# Altium footprint library Capacitor.PcbLib: 38 footprints (part 1 of 3)
Each footprint in its own frame and in the unit in brackets; x right, y up, seen from the top. Pads: shape width x height; smd on the part's side, far side on the other; paste and mask are expansions set on the pad; w line width, h text height; cw(c..) or ccw(c..) is an arc to the next point about the centre after c.
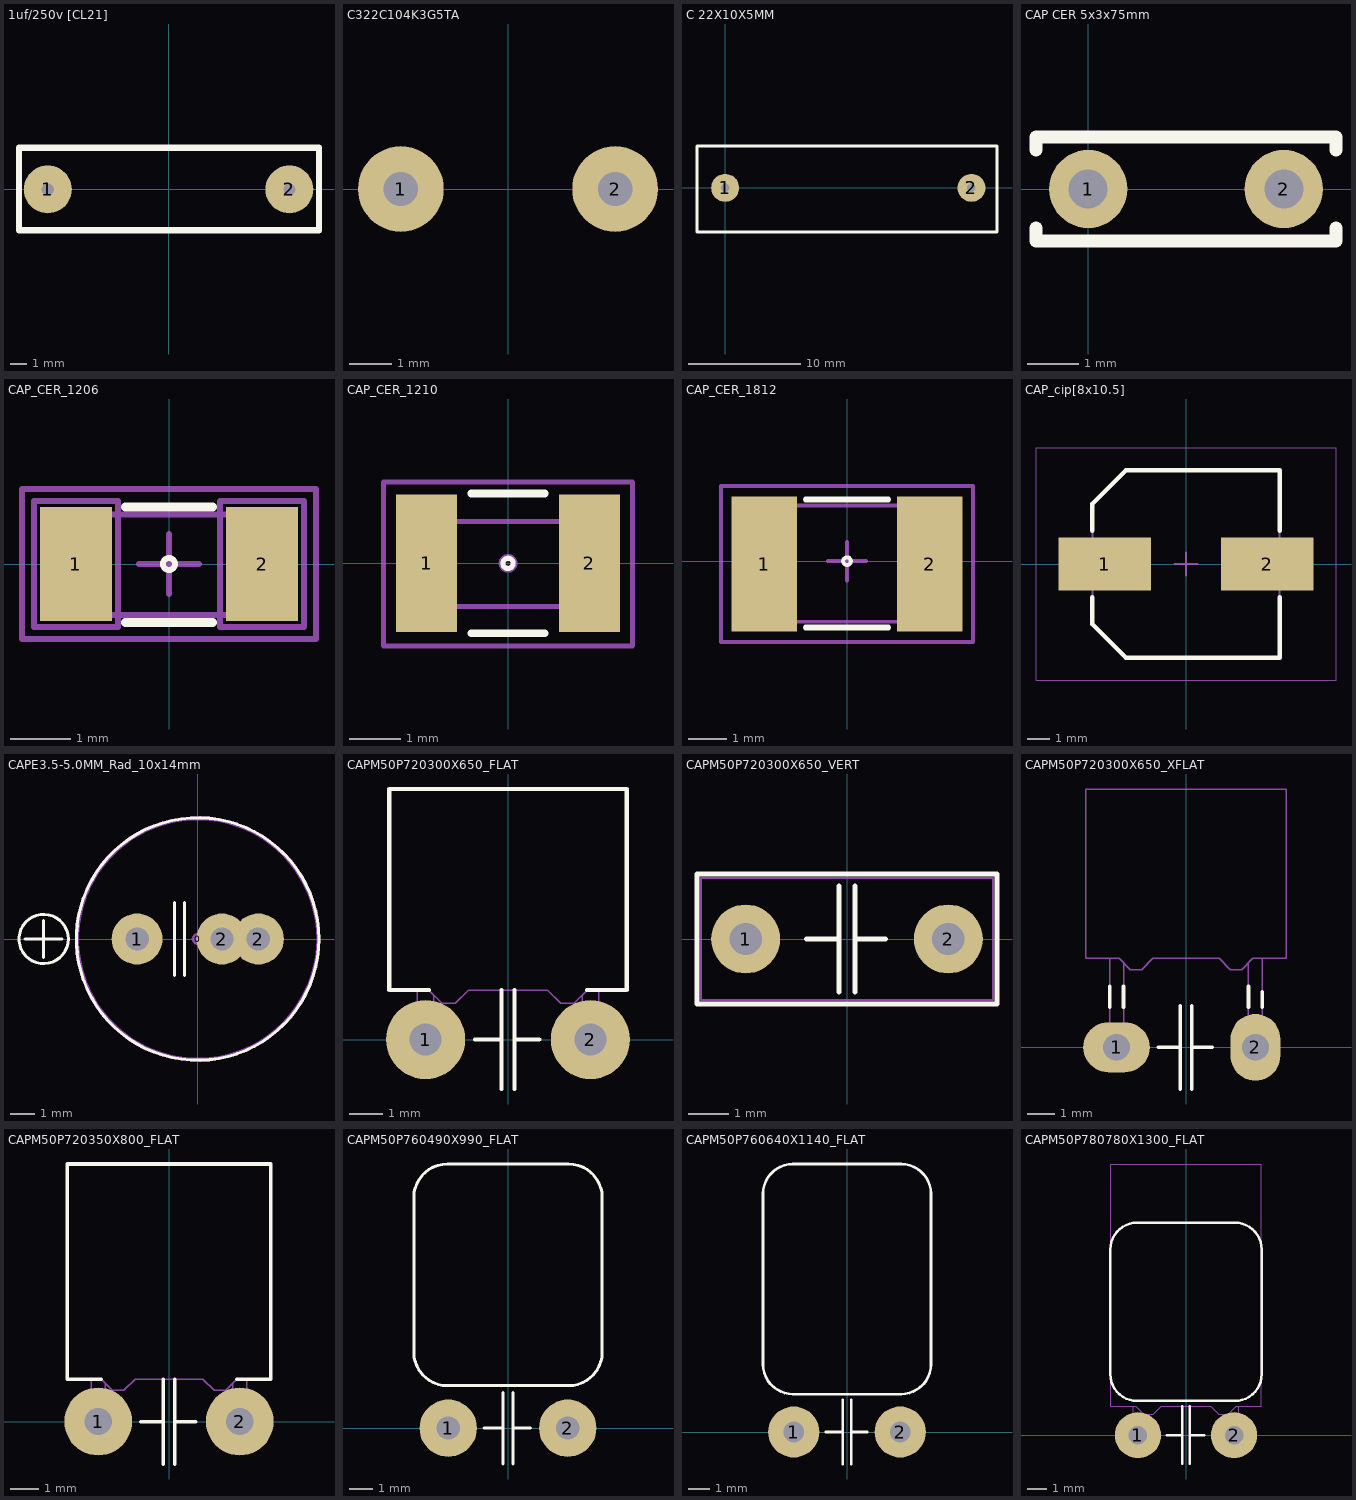
[diagram p0: the footprints below, top view; thin cyan lines are the x and y axes]

## 1uf/250v [CL21] [mm]
pads (2):
  round 3 hole 0.762: 1(-7.55,0) 2(7.55,0)
Top Overlay:
  lines w0.4: -9.35,-2.55 9.4,-2.55 9.4,2.6 -9.35,2.6 -9.35,-2.55
3D body "User Library-B32652A_5x10_5x18.step": height 10, standoff -3.5, extent -9,-2.5 9,2.5

## C322C104K3G5TA [mm]
pads (2):
  round 2 hole 0.8: 1(-2.5,0) 2(2.5,0)
3D body "C322C104K3G5TA7301.step": height 7.81, standoff -15.29, extent -2.795,-1.6 2.795,1.585

## C 22X10X5MM [mm]
pads (2):
  round 2.5 hole 0.762: 1(0,0) 2(22,0)
Top Overlay:
  lines w0.254: -2.083,3.734 24.282,3.734 24.282,-3.937 -2.515,-3.937 -2.515,3.734 -1.803,3.734
3D body "C22X10X5.stp": height 17, standoff -4.5, extent -2.053,-3.581 23.947,3.42

## CAP CER 5x3x75mm [mil] "CAP CER 1000PF 500V 10% RADIAL"
height 2952.76
pads (2):
  round 60 hole 30: 1(0,0) 2(150,0)
Top Overlay:
  lines w10: -40,-30 -40,-40 190,-40 190,-30 ; -40,30 -40,40 190,40 190,30
3D body "User Library-Ceramic Capacitor 5x3_75mm.step": height 293.64, standoff -59.06, extent -21.79,-39.36 171.8,39.38

## CAP_CER_1206 [mm] "Chip Capacitor 1206 2-Leads"
height 2
pads (2):
  rect 1.2x1.9 smd: 1(-1.55,0) 2(1.55,0)
Top Overlay:
  circle w0.1: c0,0 r0.1
  lines w0.15: -0.725,-0.975 0.725,-0.975 ; -0.725,0.95 0.725,0.95
Mechanical 13:
  lines w0.1: -1.625,-0.85 1.625,-0.85 1.625,0.825 -1.625,0.825 -1.625,-0.85
Mechanical 15:
  lines w0.1: -0.5,0 0.5,0 ; 0,-0.5 0,0.5 ; -2.45,-1.25 2.45,-1.25 2.45,1.25 -2.45,1.25 -2.45,-1.25 ; -2.25,-1.05 -2.25,1.05 -0.85,1.05 -0.85,-1.05 -2.25,-1.05 ; 0.85,-1.05 2.25,-1.05 2.25,1.05 0.85,1.05 0.85,-1.05
3D body "rnd_150-1206b102k101nt.stp": height 1.6, standoff 0, extent -1.6,-0.825 1.6,0.825

## CAP_CER_1210 [mm] "Chip Capacitor 1206 2-Leads"
height 2
pads (2):
  rect 1.2x2.7 smd: 1(-1.6,0) 2(1.6,0)
Top Overlay:
  circle w0.1: c0,0 r0.1
  lines w0.15: -0.725,-1.375 0.725,-1.375 ; -0.725,1.375 0.725,1.375
Mechanical 13:
  lines w0.1: -1.625,-0.85 -1.625,0.825 1.625,0.825 1.625,-0.85 -1.625,-0.85
Mechanical 15:
  circle w0.1: c0,0 r0.135
  lines w0.1: -2.45,-1.625 -2.45,1.6 2.45,1.6 2.45,-1.625 -2.45,-1.625
3D body "LDBAB3100GC5N0.stp": height 2, standoff 0, extent -1.7,-1.25 1.7,1.25
3D body "rnd_150-1206b102k101nt.stp": height 1.6, standoff 0, extent -1.6,-0.825 1.6,0.825

## CAP_CER_1812 [mm] "Chip Capacitor 1812 2-Leads"
height 2
pads (2):
  rect 1.7x3.5 smd: 1(-2.15,-0.075) 2(2.15,-0.075)
Top Overlay:
  circle w0.1: c0,0 r0.1
  lines w0.15: -1.075,-1.725 1.075,-1.725 ; -1.075,1.6 1.075,1.6
Mechanical 13:
  lines w0.1: -2.25,-1.575 2.25,-1.575 2.25,1.45 -2.25,1.45 -2.25,-1.575
Mechanical 15:
  lines w0.1: -0.5,0 0.5,0 ; 0,-0.5 0,0.5 ; -3.275,-2.1 3.275,-2.1 3.275,1.95 -3.275,1.95 -3.275,-2.1
3D body "rnd_150-1812b102k302n1.stp": height 3.2, standoff 0, extent -2.25,-1.575 2.25,1.425

## CAP_cip[8x10.5] [mm] "Aluminum Electrolytic Capacitor, Body 8,30x8,30x10,50mm, IPC Low Density"
height 10.5
pads (2):
  rect 4.1x2.35 smd: 1(-3.6,0) 2(3.6,0)
Top Overlay:
  lines w0.2: -4.15,-1.475 -4.15,-2.663 -2.663,-4.15 4.15,-4.15 4.15,-1.475 ; -4.15,1.475 -4.15,2.662 -2.663,4.15 4.15,4.15 4.15,1.475
Mechanical 13:
  lines w0.1: -4.15,-2.663 -2.663,-4.15 4.15,-4.15 4.15,4.15 -2.663,4.15 -4.15,2.662 -4.15,-2.663
Mechanical 15:
  lines w0.05: -6.65,-5.15 -6.65,5.15 6.65,5.15 6.65,-5.15 -6.65,-5.15
  lines w0.1: -0.5,0 0.5,0 ; 0,-0.5 0,0.5
3D body "CAPAE9183X105M.step": height 10.5, standoff 0, extent -4.575,-4.15 4.575,4.15

## CAPE3.5-5.0MM_Rad_10x14mm [mm] "3.5 & 5.0mm Pitch Radial Capacitor 10x14mm DxH"
height 14
pads (4):
  round 0.5 on Mech15: 0(0,0)
  round 2.1 hole 0.965: 1(-2.5,0) 2(1,0) 2(2.5,0)
Top Overlay:
  circle w0.127: c-6.35,0 r1.016
  circle w0.127: c0,0 r5
  lines w0.127: -7.112,0 -5.588,0 ; -6.35,-0.762 -6.35,0.762 ; -0.95,-1.5 -0.95,1.5 ; -0.55,-1.5 -0.55,1.5
Mechanical 13:
  circle w0.127: c0,0 r4.953
Mechanical 15:
  circle w0.127: c0,0 r5
3D body "ElectroCap10x14mm.stp": height 13.99, standoff -3.51, extent -5.25,-5.237 5.206,5.237

## CAPM50P720300X650_FLAT [mm] "Capacitor, THT, Metallized Polyester Film with 7.2x3.0x6.5mm LxTxH"
height 3
pads (2):
  round 2.4 hole 0.965: 1(-2.5,0) 2(2.5,0)
Top Overlay:
  lines w0.127: -2.4,1.5 -3.6,1.5 -3.6,7.6 3.6,7.6 3.6,1.5 2.4,1.5 ; -1,0 -0.2,0 ; -0.2,-1.5 -0.2,1.5 ; 0.2,-1.5 0.2,1.5 ; 0.2,0 0.95,0
Mechanical 13:
  lines w0.05: -2.75,0.75 -2.25,0.75 ; -2.75,1.5 -2.75,0 ccw(c-2.5,0) -2.25,0 -2.25,1.35 ; 2.25,0.75 2.75,0.75 ; 2.25,1.35 2.25,0 ccw(c2.5,0) 2.75,0 2.75,1.5 ; -3.6,1.5 -2.4,1.5 -2,1.1 -1.6,1.1 -1.2,1.5 1.2,1.5 1.6,1.1 2,1.1 2.4,1.5 3.6,1.5 3.6,7.6 -3.6,7.6 -3.6,1.5
3D body "CAPM50P720300X650_FLAT.STEP": height 3, standoff -1.78, extent -3.6,-0.249 3.6,7.6

## CAPM50P720300X650_VERT [mm] "Capacitor, THT, Metallized Polyester Film with 7.2x3.0x6.5mm LxTxH"
height 6.5
pads (2):
  round 1.7 / inner round 1.7 / far side round 2 hole 0.8: 1(-2.5,0) 2(2.5,0)
Top Overlay:
  lines w0.127: -1,0 -0.2,0 ; -0.2,-1.3 -0.2,1.3 ; 0.2,-1.3 0.2,1.3 ; 0.2,0 0.95,0 ; -3.7,-1.6 3.7,-1.6 3.7,1.6 -3.7,1.6 -3.7,-1.6
Mechanical 13:
  lines w0.05: -3.6,-1.5 3.6,-1.5 3.6,1.5 -3.6,1.5 -3.6,-1.5
3D body "CAPM50P720300X650_VERTICAL.STEP": height 6.5, standoff -1.78, extent -3.6,-1.5 3.6,1.5

## CAPM50P720300X650_XFLAT [mm] "Capacitor, THT, Metallized Polyester Film with 7.2x3.0x6.5mm LxTxH"
height 2
pads (2):
  oval 2.4x1.8 hole 0.965: 1(-2.5,0)
  oval 1.8x2.4 hole 0.965: 2(2.5,0)
Top Overlay:
  lines w0.127: -2.75,1.45 -2.75,2.2 ; -2.25,1.45 -2.25,2.2 ; -1,0 -0.2,0 ; -0.2,-1.5 -0.2,1.5 ; 0.2,-1.5 0.2,1.5 ; 0.2,0 0.95,0 ; 2.25,1.45 2.25,2.2 ; 2.75,1.45 2.75,2
Mechanical 13:
  lines w0.05: -2.75,0.45 -2.25,0.45 ; -2.75,3.2 -2.75,0 ccw(c-2.5,0) -2.25,0 -2.25,3.05 ; 2.25,0.45 2.75,0.45 ; 2.25,3.05 2.25,0 ccw(c2.5,0) 2.75,0 2.75,3.2 ; -3.6,3.2 -3.6,9.3 3.6,9.3 3.6,3.2 2.4,3.2 2,2.8 1.6,2.8 1.2,3.2 -1.2,3.2 -1.6,2.8 -2,2.8 -2.4,3.2 -3.6,3.2
3D body "CAPM50P720300X650_XFLAT.STEP": height 2, standoff -1.78, extent -3.6,-0.249 3.6,9.3

## CAPM50P720350X800_FLAT [mm] "Capacitor, THT, Metallized Polyester Film with 7.2x3.5x8.0mm LxTxH"
height 3.5
pads (2):
  round 2.4 hole 0.965: 1(-2.5,0) 2(2.5,0)
Top Overlay:
  lines w0.127: -2.4,1.5 -3.6,1.5 -3.6,9.1 3.6,9.1 3.6,1.5 2.4,1.5 ; -1,0 -0.2,0 ; -0.2,-1.5 -0.2,1.5 ; 0.2,-1.5 0.2,1.5 ; 0.2,0 0.95,0
Mechanical 13:
  lines w0.05: -2.75,0.75 -2.25,0.75 ; -2.75,1.5 -2.75,0 ccw(c-2.5,0) -2.25,0 -2.25,1.35 ; 2.25,0.75 2.75,0.75 ; 2.25,1.35 2.25,0 ccw(c2.5,0) 2.75,0 2.75,1.5 ; -3.6,1.5 -2.4,1.5 -2,1.1 -1.6,1.1 -1.2,1.5 1.2,1.5 1.6,1.1 2,1.1 2.4,1.5 3.6,1.5 3.6,9.1 -3.6,9.1 -3.6,1.5
3D body "CAPM50P720350X800_FLAT.STEP": height 3.5, standoff -1.78, extent -3.6,-0.249 3.6,9.1

## CAPM50P760490X990_FLAT [mm] "Capacitor, THT, Metallized Polyester Film with 7.2x4.5x9.5mm LxTxH"
height 4.9
pads (2):
  round 2.4 hole 0.965: 1(-2.5,0) 2(2.5,0)
Top Overlay:
  lines w0.127: -1,0 -0.2,0 ; -0.2,-1.5 -0.2,1.5 ; 0.2,-1.5 0.2,1.5 ; 0.2,0 0.95,0 ; -3.937,3.175 ccw(c-2.54,3.175) -2.54,1.778 2.54,1.778 ccw(c2.54,3.175) 3.937,3.175 3.937,9.652 ccw(c2.54,9.652) 2.54,11.049 -2.54,11.049 ccw(c-2.54,9.652) -3.937,9.652 -3.937,3.175
3D body "CAPM50P760490X990_FLAT.STEP": height 4.9, standoff -1.78, extent -3.8,-0.249 3.8,11

## CAPM50P760640X1140_FLAT [mm] "Capacitor, THT, Metallized Polyester Film with 6.0x11.0x7.2mm TxHxW"
height 6.4
pads (2):
  round 2.4 hole 0.965: 1(-2.5,0) 2(2.5,0)
Top Overlay:
  lines w0.127: -1,0 -0.2,0 ; -0.2,-1.5 -0.2,1.5 ; 0.2,-1.5 0.2,1.5 ; 0.2,0 0.95,0 ; -3.937,3.175 ccw(c-2.54,3.175) -2.54,1.778 2.54,1.778 ccw(c2.54,3.175) 3.937,3.175 3.937,11.176 ccw(c2.54,11.176) 2.54,12.573 -2.54,12.573 ccw(c-2.54,11.176) -3.937,11.176 -3.937,3.175
3D body "CAPM50P760640X1140_FLAT.STEP": height 6.4, standoff -1.78, extent -3.8,-0.249 3.8,12.5

## CAPM50P780780X1300_FLAT [mm] "Capacitor, THT, Metallized Polyester Film with 7.8x7.8x13.0mm LxTxH"
height 7.8
pads (2):
  round 2.4 hole 0.965: 1(-2.5,0) 2(2.5,0)
Top Overlay:
  lines w0.127: -1,0 -0.2,0 ; -0.2,-1.5 -0.2,1.5 ; 0.2,-1.5 0.2,1.5 ; 0.2,0 0.95,0 ; -3.937,3.175 ccw(c-2.54,3.175) -2.54,1.778 2.54,1.778 ccw(c2.54,3.175) 3.937,3.175 3.937,9.652 ccw(c2.54,9.652) 2.54,11.049 -2.54,11.049 ccw(c-2.54,9.652) -3.937,9.652 -3.937,3.175
Mechanical 13:
  lines w0.05: -2.75,0.75 -2.25,0.75 ; -2.75,1.5 -2.75,0 ccw(c-2.5,0) -2.25,0 -2.25,1.15 ; 2.25,0.75 2.75,0.75 ; 2.25,1.15 2.25,0 ccw(c2.5,0) 2.75,0 2.75,1.5 ; -3.9,1.5 -3.9,14.1 3.9,14.1 3.9,1.5 2.6,1.5 2.2,1.1 1.7,1.1 1.3,1.5 -1.3,1.5 -1.7,1.1 -2.2,1.1 -2.6,1.5 -3.9,1.5
3D body "CAPM50P780780X1300_FLAT.STEP": height 7.8, standoff -1.78, extent -3.9,-0.249 3.9,14.1